# Altium schematic symbol library ADS8681IPW.SchLib: 1 symbol
Pins are listed as number, name and electrical type; pins without a type are passive.

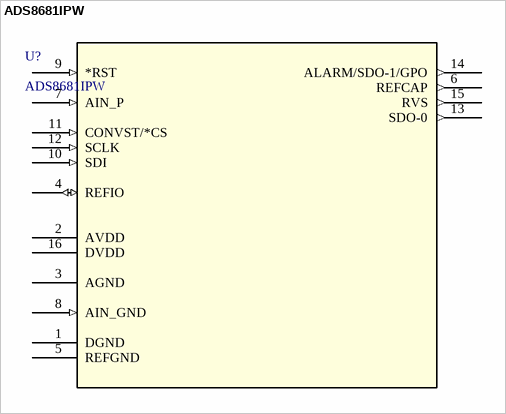
[diagram p0: symbol ADS8681IPW]

## ADS8681IPW
designator U?
16-bit, 1MSPS 1-ch SAR ADC with programmable (Â±12V, Â±10V, Â±6V, Â±5V, Â±2.5V) input ranges on 5V supply 16-TSSOP -40 to 125; Manufacturer_Name: Texas Instruments; Copyright: Copyright (C) 2025 Ultra Librarian. All rights reserved.; Manufacturer_Part_Number: ADS8681IPW; RefDes: RefDes; Type: Type
footprint PW16_TEX
pins: 1 DGND (power), 2 AVDD (power), 3 AGND (power), 4 REFIO (io), 5 REFGND (power), 6 REFCAP (out), 7 AIN_P (in), 8 AIN_GND (in), 9 *RST (in), 10 SDI (in), 11 CONVST/*CS (in), 12 SCLK (in), 13 SDO-0 (out), 14 ALARM/SDO-1/GPO (out), 15 RVS (out), 16 DVDD (power)